# Altium schematic symbol library FTSH-105-01-XXX-DV-K.SCHLIB: 1 symbol
Pins are listed as number, name and electrical type; pins without a type are passive.

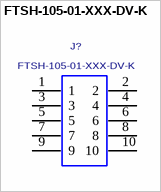
[diagram p0: symbol FTSH-105-01-XXX-DV-K]

## FTSH-105-01-XXX-DV-K
designator J?
TERMINAL STRIP, .050"(1.27mm) PITCH, 10 PINS, KEYED; MANUFACTURER: SAMTEC; CREATED: November 30, 2016 - Wendy Xin; PCB DECAL: FTSH-105-01-XXX-DV-K
footprint FTSH-105-01-XXX-DV-K
pins: 1, 2, 3, 4, 5, 6, 7, 8, 9, 10